# Altium schematic symbol library MC-306.Schlib: 1 symbol
Pins are listed as number, name and electrical type; pins without a type are passive.

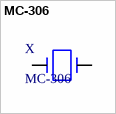
[diagram p0: symbol MC-306]

## MC-306
designator X
32.768 kHz Crystal
pins: 1, 4